# Altium footprint library IDC_100_2x8.PcbLib: 1 footprints
Each footprint in its own frame and in the unit in brackets; x right, y up, seen from the top. Pads: shape width x height; smd on the part's side, far side on the other; paste and mask are expansions set on the pad; w line width, h text height; cw(c..) or ccw(c..) is an arc to the next point about the centre after c.
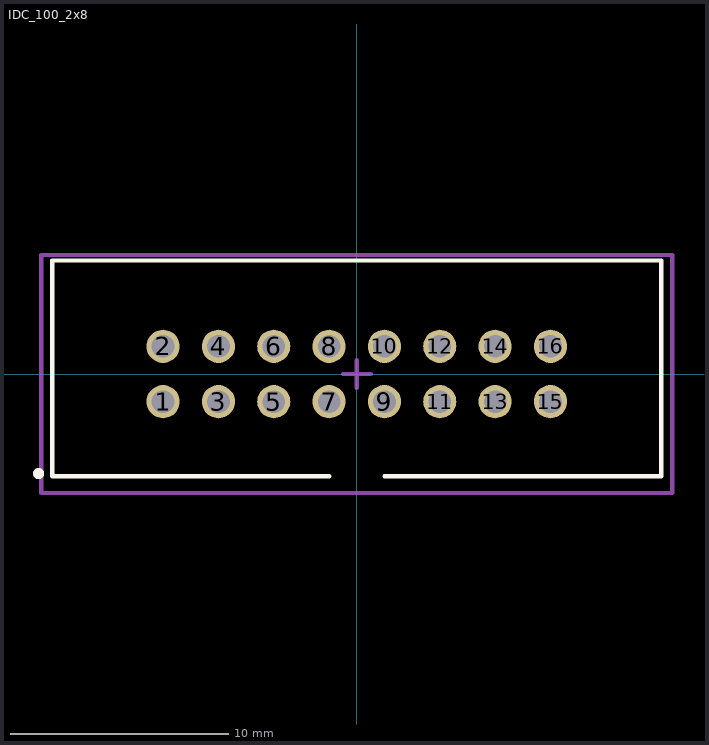
[diagram p0: the footprint, top view; thin cyan lines are the x and y axes]

## IDC_100_2x8 [mil]
pads (16):
  round 60 hole 41: 1(-350,-50) 2(-350,50) 3(-250,-50) 4(-250,50) 5(-150,-50) 6(-150,50) 7(-50,-50) 8(-50,50) 9(50,-50) 10(50,50) 11(150,-50) 12(150,50) 13(250,-50) 14(250,50) 15(350,-50) 16(350,50)
Top Overlay:
  circle w10: c-575,-180 r5
  lines w7.87: -50,-185 -550,-185 -550,205 550,205 550,-185 50,-185
Mechanical 15:
  lines w7.87: -25,0 25,0 ; 0,-25 0,25 ; -570,-215 -570,215 570,215 570,-215 -570,-215
3D body "75869103lf.stp": height 367.56, standoff -119.44, extent -541.93,-175 541.93,189.96